# EAGLE library part 5-2337992-8 (library 5-2337992-8)
TE CONNECTIVITY - 5-2337992-8 - Modular Connector, RJ45 Jack, 1 x 1 Port, 8P8C, Cat5e, Through Hole Mount Source: Datasheet <https://www.te.com/commerce/DocumentDelivery/DDEController?Action=showdoc&DocId=Customer Drawing5-2337992-8ApdfEnglishENG_CD_5-2337992-8_A.pdf5-2337992-8>
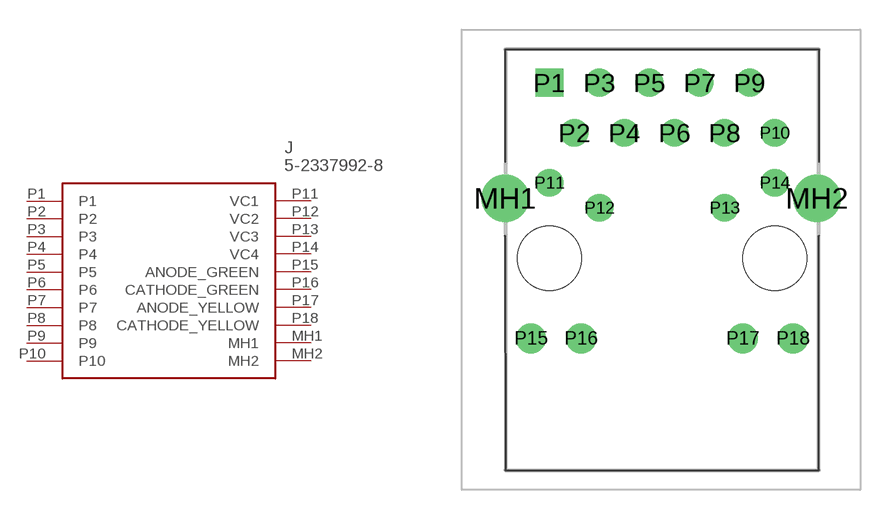
[diagram p0: symbol with the pads of 523379928; footprint 523379928]

Designator prefix J

## 5-2337992-8 (Description: TE CONNECTIVITY - 5-2337992-8 - Modular Connector, RJ45 Jack, 1 x 1 Port, 8P8C, Cat5e, Through Hole Mount; Height: 13.65mm; Manufacturer_Name: TE Connectivity; Manufacturer_Part_Number: 5-2337992-8; Mouser_Part_Number: 571-5-2337992-8; Mouser_Price-Stock: https://www.mouser.co.uk/ProductDetail/TE-Connectivity/5-2337992-8?qs=l4Gc20tDgJIqFEPxQvwM3w%3D%3D)  [523379928]
MH1  MH1
MH2  MH2
P1  P1
P2  P2
P3  P3
P4  P4
P5  P5
P6  P6
P7  P7
P8  P8
P9  P9
P10  P10
P11  VC1
P12  VC2
P13  VC3
P14  VC4
P15  ANODE_GREEN
P16  CATHODE_GREEN
P17  ANODE_YELLOW
P18  CATHODE_YELLOW

## Footprint 523379928 (pad centres in mm)
5-2337992-8-2
drill 1.6 pad 2.4: MH1 -2.235,-5.85; MH2 13.565,-5.85
drill 0.9 pad 1.4 square: P1 0,0
drill 0.9 pad 1.4: P2 1.27,-2.54; P3 2.54,0; P4 3.81,-2.54; P5 5.08,0; P6 6.35,-2.54; P7 7.62,0; P8 8.89,-2.54; P9 10.16,0; P10 11.43,-2.54; P11 0,-5.07; P12 2.54,-6.34; P13 8.89,-6.34; P14 11.43,-5.07
drill 1.02 pad 1.53: P15 -0.925,-12.96; P16 1.615,-12.96; P17 9.815,-12.96; P18 12.355,-12.96
hole 3.25 at 11.43,-8.9
hole 3.25 at 0,-8.9